# EAGLE library part FDFS2P753Z (library FDFS2P753Z)
MOSFET, P, SCHOTTKY, SMD
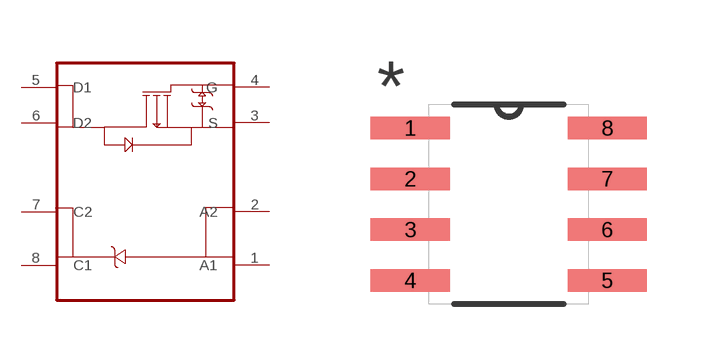
[diagram p1: symbol with the pads of SOIC127P600X175-8N; footprint SOIC127P600X175-8N]

Designator prefix -

## FDFS2P753Z  [SOIC127P600X175-8N]
1  A1  pas
2  A2  pas
3  S  pas
4  G  pas
5  D1  pas
6  D2  pas
7  C2  pas
8  C1  pas

## Footprint SOIC127P600X175-8N (pad centres in mm)
smd 1.981 x 0.559: 1 -2.464,1.905; 2 -2.464,0.635; 3 -2.464,-0.635; 4 -2.464,-1.905; 5 2.464,-1.905; 6 2.464,-0.635; 7 2.464,0.635; 8 2.464,1.905